# Altium footprint library BS270.PcbLib: 1 footprints
Each footprint in its own frame and in the unit in brackets; x right, y up, seen from the top. Pads: shape width x height; smd on the part's side, far side on the other; paste and mask are expansions set on the pad; w line width, h text height; cw(c..) or ccw(c..) is an arc to the next point about the centre after c.
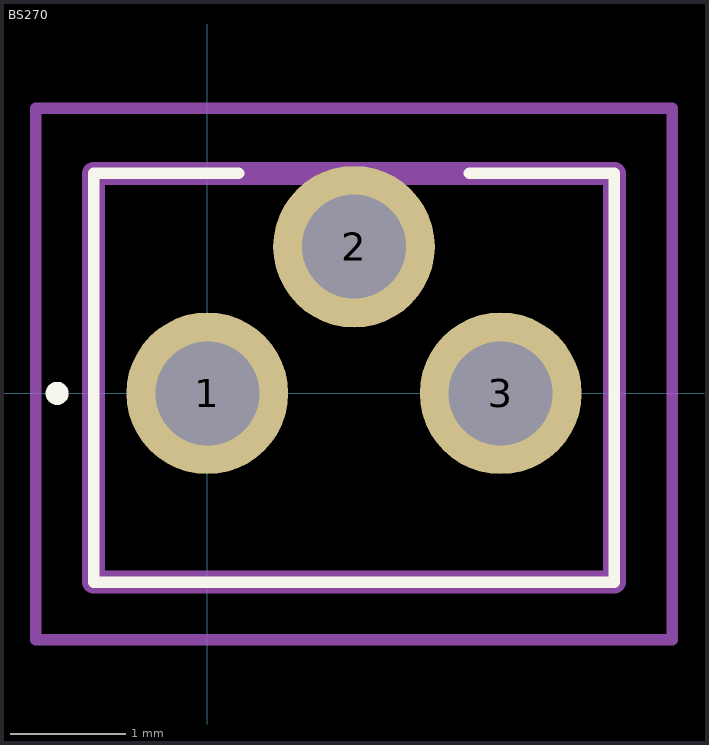
[diagram p0: the footprint, top view; thin cyan lines are the x and y axes]

## BS270 [mm]
pads (3):
  round 1.4 hole 0.9: 1(0,0) 2(1.27,1.27) 3(2.54,0)
Top Overlay:
  lines w0.1: 0.27,1.905 -0.985,1.905 -0.985,-1.595 -0.985,-1.635 3.525,-1.635 3.525,1.905 2.27,1.905 ; -1.3,-0.05 ccw(c-1.3,0) -1.3,0.05 ; -1.3,-0.05 -1.3,-0.05 ; -1.3,-0.05 cw(c-1.3,0) -1.3,0.05 ; -1.3,0.05 -1.3,0.05
Mechanical 15:
  lines w0.2: -0.985,-1.635 3.525,-1.635 3.525,1.905 -0.985,1.905 -0.985,-1.635
Mechanical 20:
  lines w0.1: -1.485,-2.135 4.025,-2.135 4.025,2.47 -1.485,2.47 -1.485,-2.135